# EAGLE library part FPC-15WAY (library pimoroni-fpc)
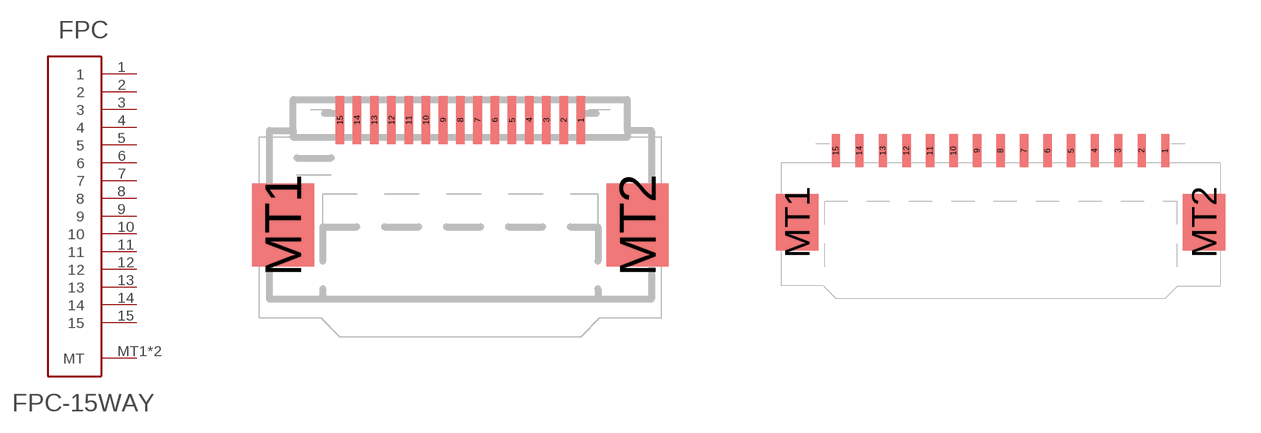
[diagram p10: symbol with the pads of FPC-0.5MM-15WAY; footprints FPC-0.5MM-15WAY, FPC-1.0MM-15WAY]

Designator prefix FPC

## FPC-15WAY0.5  [FPC-0.5MM-15WAY]
1  1
2  2
3  3
4  4
5  5
6  6
7  7
8  8
9  9
10  10
11  11
12  12
13  13
14  14
15  15
MT1  MT
MT2  MT

## FPC-15WAY1.0  [FPC-1.0MM-15WAY]
Pads as for FPC-0.5MM-15WAY

## Footprint FPC-0.5MM-15WAY (pad centres in mm)
smd 0.25 x 1.4: 1 3.5,0.7; 2 3,0.7; 3 2.5,0.7; 4 2,0.7; 5 1.5,0.7; 6 1,0.7; 7 0.5,0.7; 8 0,0.7; 9 -0.5,0.7; 10 -1,0.7; 11 -1.5,0.7; 12 -2,0.7; 13 -2.5,0.7; 14 -3,0.7; 15 -3.5,0.7
smd 1.8 x 2.4: MT1 -5.15,-2.35; MT2 5.15,-2.35

## Footprint FPC-1.0MM-15WAY (pad centres in mm)
smd 0.35 x 1.4: 1 7,0.7; 2 6,0.7; 3 5,0.7; 4 4,0.7; 5 3,0.7; 6 2,0.7; 7 1,0.7; 8 0,0.7; 9 -1,0.7; 10 -2,0.7; 11 -3,0.7; 12 -4,0.7; 13 -5,0.7; 14 -6,0.7; 15 -7,0.7
smd 1.8 x 2.4: MT1 -8.65,-2.35; MT2 8.65,-2.35